# Altium schematic symbol library SamacSys.SchLib: 22 symbols
Pins are listed as number, name and electrical type; pins without a type are passive.

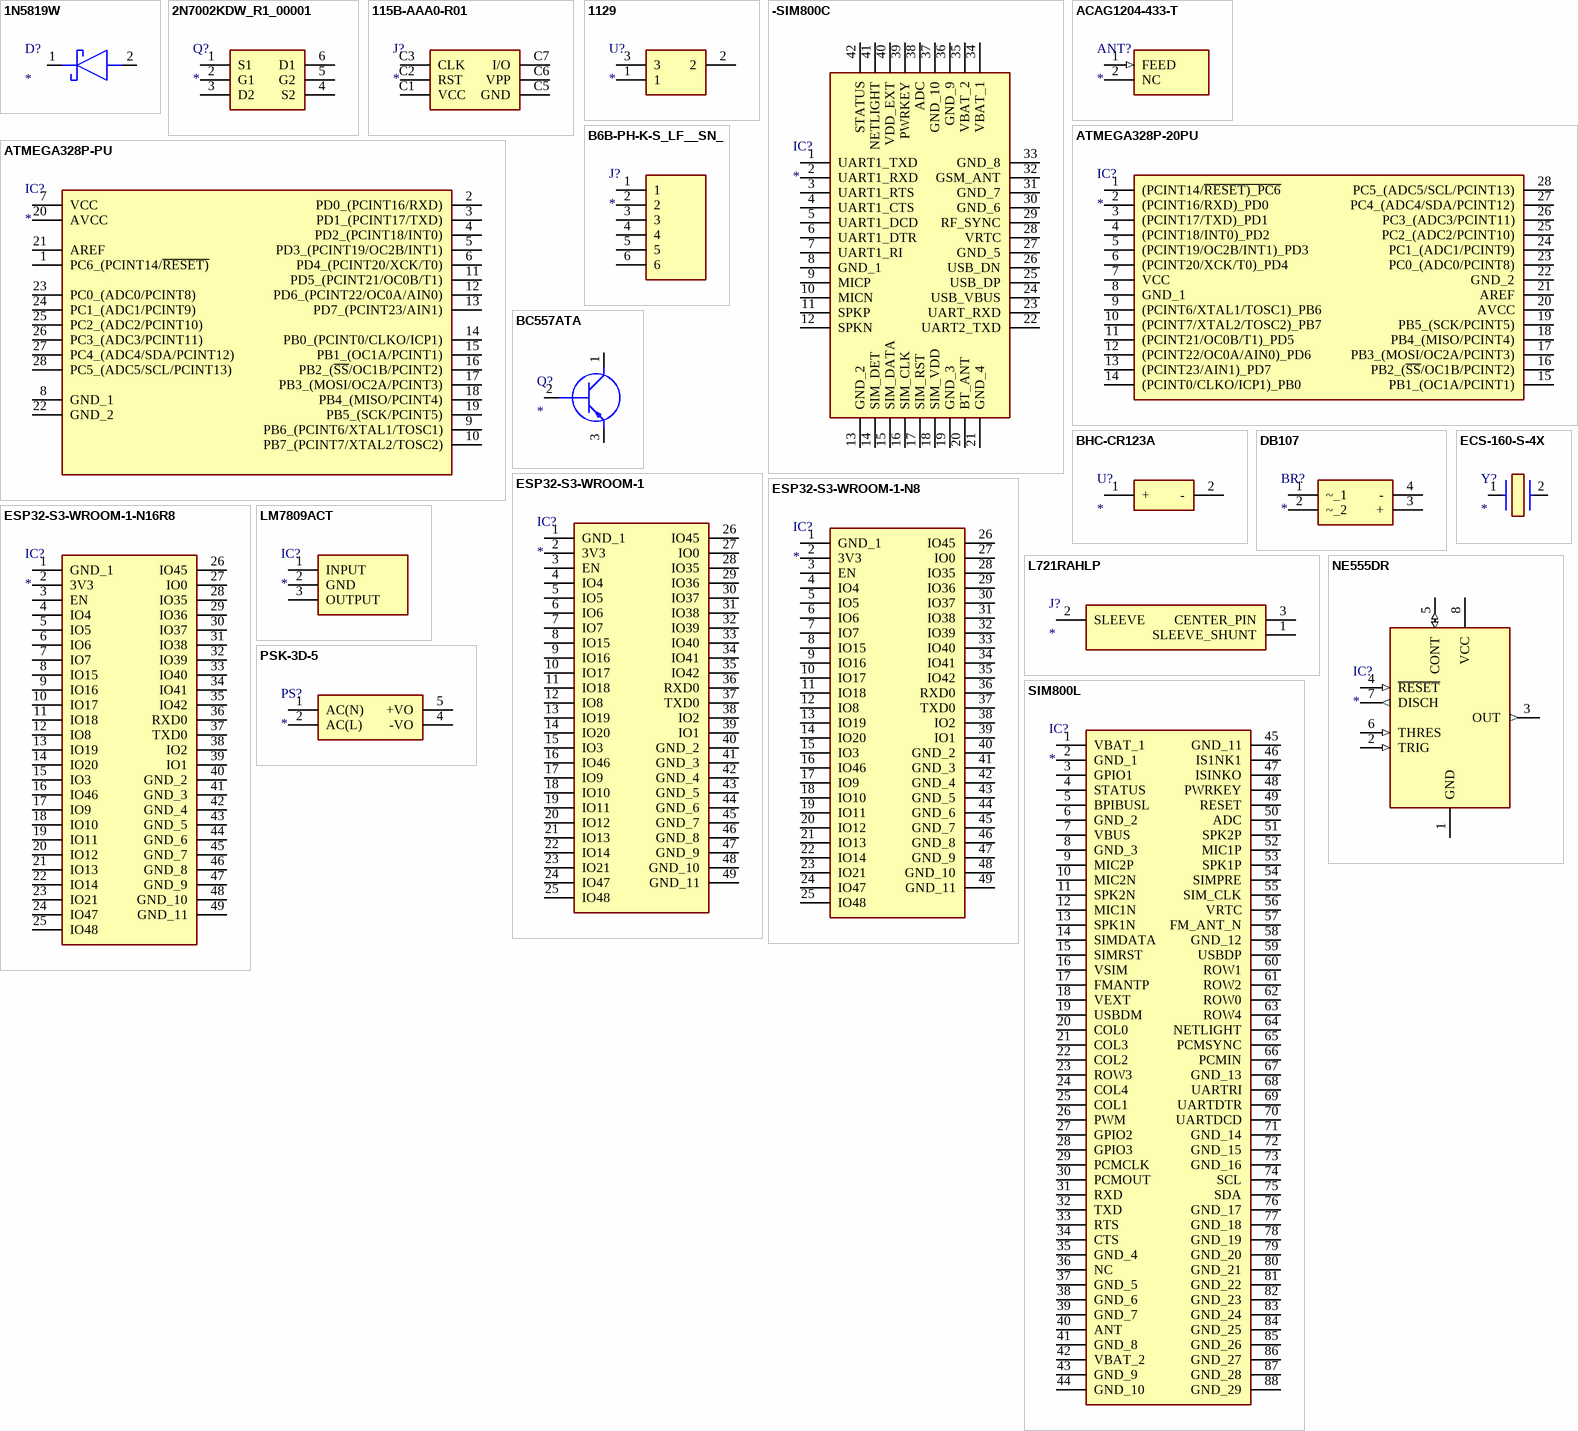
[diagram p0: symbols 1N5819W to SIM800L]

## 1N5819W
designator D?
Schottky Diode; Manufacturer_Name: Shandong Jingdao Microelectronics; Manufacturer_Part_Number: 1N5819W; Datasheet Link: https://datasheet.lcsc.com/szlcsc/Shandong-Jingdao-Microelectronics-1N5819W_C169540.pdf; Height: 1.1mm
footprint SODFL3618X110N
pins: 1 K, 2 A

## 2N7002KDW_R1_00001
designator Q?
MOSFET (N-Channel); Manufacturer_Name: PANJIT; Manufacturer_Part_Number: 2N7002KDW_R1_00001; Datasheet Link: https://www.mouser.com/datasheet/2/1057/2N7002KDW-1869725.pdf; Height: 1.1mm; Mouser Part Number: 241-2N7002KDWR100001; Mouser Price/Stock: https://www.mouser.co.uk/ProductDetail/Panjit/2N7002KDW_R1_00001?qs=sPbYRqrBIVmMdyQuXiqRcw%3D%3D
footprint SOT65P210X110-6N
pins: 1 S1, 2 G1, 3 D2, 4 S2, 5 G2, 6 D1

## 115B-AAA0-R01
designator J?
Connector; Manufacturer_Name: ATTEND; Manufacturer_Part_Number: 115B-AAA0-R01; Datasheet Link: https://www.attend.com.tw/data/download/file/115B-AAA0-R01.pdf; Height: 2.5mm
footprint 115BAAA0R01
pins: C1 VCC, C2 RST, C3 CLK, C5 GND, C6 VPP, C7 I/O

## 1129
designator U?
Undefined or Miscellaneous; Manufacturer_Name: Keystone Electronics; Manufacturer_Part_Number: 1129; Datasheet Link: https://www.keyelco.com/product-pdf.cfm?p=14070; Height: 15.24mm; Mouser Part Number: 534-1129; Mouser Price/Stock: https://www.mouser.co.uk/ProductDetail/Keystone-Electronics/1129?qs=1Og3oR3ILyBJg4T%252BMvCMOw%3D%3D
footprint 1129
pins: 1, 2, 3

## -SIM800C
designator IC?
Integrated Circuit; Manufacturer_Name: SIMCOM; Manufacturer_Part_Number: -SIM800C; Datasheet Link: https://datasheet.lcsc.com/szlcsc/SIMCom-Wireless-Solutions-SIM800C-24Mbit_C69119.pdf
footprint SIM800C
pins: 1 UART1_TXD, 2 UART1_RXD, 3 UART1_RTS, 4 UART1_CTS, 5 UART1_DCD, 6 UART1_DTR, 7 UART1_RI, 8 GND_1, 9 MICP, 10 MICN, 11 SPKP, 12 SPKN, 13 GND_2, 14 SIM_DET, 15 SIM_DATA, 16 SIM_CLK, 17 SIM_RST, 18 SIM_VDD, 19 GND_3, 20 BT_ANT, 21 GND_4, 22 UART2_TXD, 23 UART_RXD, 24 USB_VBUS, 25 USB_DP, 26 USB_DN, 27 GND_5, 28 VRTC, 29 RF_SYNC, 30 GND_6, 31 GND_7, 32 GSM_ANT, 33 GND_8, 34 VBAT_1, 35 VBAT_2, 36 GND_9, 37 GND_10, 38 ADC, 39 PWRKEY, 40 VDD_EXT, 41 NETLIGHT, 42 STATUS

## ACAG1204-433-T
designator ANT?
Antenna; Manufacturer_Name: ABRACON; Manufacturer_Part_Number: ACAG1204-433-T; Datasheet Link: https://abracon.com/datasheets/ACAG1204-433-T.pdf; Height: 1.7mm; Mouser Part Number: 815-G1204-433-T; Mouser Price/Stock: https://www.mouser.co.uk/ProductDetail/ABRACON/ACAG1204-433-T?qs=fAHHVMwC%252BbjkxKnkj6vGKw%3D%3D; Arrow Part Number: ACAG1204-433-T; Arrow Price/Stock: https://www.arrow.com/en/products/acag1204-433-t/abracon?region=nac
footprint ANTC12040X170N
pins: 1 FEED (in), 2 NC

## ATMEGA328P-20PU
designator IC?
Integrated Circuit; Manufacturer_Name: Microchip; Manufacturer_Part_Number: ATMEGA328P-20PU; Height: 4.572mm
footprint DIP794W53P254L3467H457Q28N
pins: 1 (PCINT14/~{RESET)_PC6}, 2 (PCINT16/RXD)_PD0, 3 (PCINT17/TXD)_PD1, 4 (PCINT18/INT0)_PD2, 5 (PCINT19/OC2B/INT1)_PD3, 6 (PCINT20/XCK/T0)_PD4, 7 VCC, 8 GND_1, 9 (PCINT6/XTAL1/TOSC1)_PB6, 10 (PCINT7/XTAL2/TOSC2)_PB7, 11 (PCINT21/OC0B/T1)_PD5, 12 (PCINT22/OC0A/AIN0)_PD6, 13 (PCINT23/AIN1)_PD7, 14 (PCINT0/CLKO/ICP1)_PB0, 15 PB1_(OC1A/PCINT1), 16 PB2_(~{SS}/OC1B/PCINT2), 17 PB3_(MOSI/OC2A/PCINT3), 18 PB4_(MISO/PCINT4), 19 PB5_(SCK/PCINT5), 20 AVCC, 21 AREF, 22 GND_2, 23 PC0_(ADC0/PCINT8), 24 PC1_(ADC1/PCINT9), 25 PC2_(ADC2/PCINT10), 26 PC3_(ADC3/PCINT11), 27 PC4_(ADC4/SDA/PCINT12), 28 PC5_(ADC5/SCL/PCINT13)

## ATMEGA328P-PU
designator IC?
Integrated Circuit; Manufacturer_Name: Microchip; Manufacturer_Part_Number: ATMEGA328P-PU; Datasheet Link: https://www.mouser.ca/datasheet/2/268/ATmega48A_PA_88A_PA_168A_PA_328_P_DS_DS40002061B-3050139.pdf; Height: 4.572mm; Mouser Part Number: 556-ATMEGA328P-PU; Mouser Price/Stock: https://www.mouser.co.uk/ProductDetail/Microchip-Technology/ATMEGA328P-PU?qs=K8BHR703ZXguOQv3sKbWcg%3D%3D; Arrow Part Number: ATMEGA328P-PU; Arrow Price/Stock: https://www.arrow.com/en/products/atmega328p-pu/microchip-technology?region=europe
footprint DIP794W53P254L3467H457Q28N
pins: 1 PC6_(PCINT14/~{RESET)}, 2 PD0_(PCINT16/RXD), 3 PD1_(PCINT17/TXD), 4 PD2_(PCINT18/INT0), 5 PD3_(PCINT19/OC2B/INT1), 6 PD4_(PCINT20/XCK/T0), 7 VCC, 8 GND_1, 9 PB6_(PCINT6/XTAL1/TOSC1), 10 PB7_(PCINT7/XTAL2/TOSC2), 11 PD5_(PCINT21/OC0B/T1), 12 PD6_(PCINT22/OC0A/AIN0), 13 PD7_(PCINT23/AIN1), 14 PB0_(PCINT0/CLKO/ICP1), 15 PB1_(OC1A/PCINT1), 16 PB2_(~{SS}/OC1B/PCINT2), 17 PB3_(MOSI/OC2A/PCINT3), 18 PB4_(MISO/PCINT4), 19 PB5_(SCK/PCINT5), 20 AVCC, 21 AREF, 22 GND_2, 23 PC0_(ADC0/PCINT8), 24 PC1_(ADC1/PCINT9), 25 PC2_(ADC2/PCINT10), 26 PC3_(ADC3/PCINT11), 27 PC4_(ADC4/SDA/PCINT12), 28 PC5_(ADC5/SCL/PCINT13)

## B6B-PH-K-S_LF__SN_
designator J?
Connector; Manufacturer_Name: JST (JAPAN SOLDERLESS TERMINALS); Manufacturer_Part_Number: B6B-PH-K-S(LF)(SN); Datasheet Link: https://datasheet.datasheetarchive.com/originals/distributors/Datasheets_SAMA/75c02eb1799788a6b14d7c521ee36df4.pdf; Height: 6mm; Arrow Part Number: B6B-PH-K-S(LF)(SN); Arrow Price/Stock: https://www.arrow.com/en/products/b6b-ph-k-s-lf-sn/jst-manufacturing?region=europe
footprint SHDR6W50P0X200_1X6_1390X450X600P
pins: 1, 2, 3, 4, 5, 6

## BC557ATA
designator Q?
Transistor BJT PNP; Manufacturer_Name: onsemi; Manufacturer_Part_Number: BC557ATA; Datasheet Link: https://www.onsemi.com/pub/Collateral/BC556BTA-D.pdf; Mouser Part Number: 512-BC557ATA; Mouser Price/Stock: https://www.mouser.co.uk/ProductDetail/onsemi-Fairchild/BC557ATA?qs=UMEuL5FsraA63Lc2JwNd8w%3D%3D; Arrow Part Number: BC557ATA; Arrow Price/Stock: https://www.arrow.com/en/products/bc557ata/on-semiconductor?region=nac
footprint BC33740TA
pins: 1 C, 2 B, 3 E

## BHC-CR123A
designator U?
Undefined or Miscellaneous; Manufacturer_Name: PRO POWER; Manufacturer_Part_Number: BHC-CR123A; Datasheet Link: http://www.farnell.com/cad/1868607.pdf
footprint BHC-CR123A
pins: 1 +, 2 -

## DB107
designator BR?
Bridge Rectifier; Manufacturer_Name: Rectron; Manufacturer_Part_Number: DB107; Datasheet Link: https://www.rectron.com/data_sheets/db101-107.pdf; Height: 3.4mm; Mouser Part Number: 583-DB107; Mouser Price/Stock: https://www.mouser.co.uk/ProductDetail/Rectron/DB107?qs=G5AQjGfRJcLGAY%252B6bEDnbw%3D%3D
footprint DIP825W50P510L830H340Q4N
pins: 1 ~_1, 2 ~_2, 3 +, 4 -

## ECS-160-S-4X
designator Y?
Crystal or Oscillator; Manufacturer_Name: ECS; Manufacturer_Part_Number: ECS-160-S-4X; Datasheet Link: http://www.ecsxtal.com/store/pdf/hc-49usx.pdf; Height: 3.5mm; Mouser Part Number: 520-HCU1600-SX; Mouser Price/Stock: https://www.mouser.co.uk/ProductDetail/ECS/ECS-160-S-4X?qs=CNVyLAqdhH109We7RtSowA%3D%3D; Arrow Part Number: ECS-160-S-4X; Arrow Price/Stock: https://www.arrow.com/en/products/ecs-160-s-4x/ecs-international?region=nac
footprint ECS160S4X
pins: 1, 2

## ESP32-S3-WROOM-1
designator IC?
Integrated Circuit; Manufacturer_Name: Espressif Systems; Manufacturer_Part_Number: ESP32-S3-WROOM-1; Datasheet Link: https://www.mouser.com/catalog/specsheets/Espressif_ESP32_S3_WROOM_1_1U_Preliminary.pdf; Height: 3.25mm
footprint ESP32S3WROOM1
pins: 1 GND_1, 2 3V3, 3 EN, 4 IO4, 5 IO5, 6 IO6, 7 IO7, 8 IO15, 9 IO16, 10 IO17, 11 IO18, 12 IO8, 13 IO19, 14 IO20, 15 IO3, 16 IO46, 17 IO9, 18 IO10, 19 IO11, 20 IO12, 21 IO13, 22 IO14, 23 IO21, 24 IO47, 25 IO48, 26 IO45, 27 IO0, 28 IO35, 29 IO36, 30 IO37, 31 IO38, 32 IO39, 33 IO40, 34 IO41, 35 IO42, 36 RXD0, 37 TXD0, 38 IO2, 39 IO1, 40 GND_2, 41 GND_3, 42 GND_4, 43 GND_5, 44 GND_6, 45 GND_7, 46 GND_8, 47 GND_9, 48 GND_10, 49 GND_11

## ESP32-S3-WROOM-1-N8
designator IC?
Integrated Circuit; Manufacturer_Name: Espressif Systems; Manufacturer_Part_Number: ESP32-S3-WROOM-1-N8; Datasheet Link: https://www.espressif.com/sites/default/files/documentation/esp32-s3-wroom-1_wroom-1u_datasheet_en.pdf; Height: 3.25mm; Mouser Part Number: 356-ESP32-S3WROOM1N8; Mouser Price/Stock: https://www.mouser.co.uk/ProductDetail/Espressif-Systems/ESP32-S3-WROOM-1-N8?qs=Wj%2FVkw3K%252BMC1mq0KGPvoSQ%3D%3D
footprint ESP32S3WROOM1N8R2
pins: 1 GND_1, 2 3V3, 3 EN, 4 IO4, 5 IO5, 6 IO6, 7 IO7, 8 IO15, 9 IO16, 10 IO17, 11 IO18, 12 IO8, 13 IO19, 14 IO20, 15 IO3, 16 IO46, 17 IO9, 18 IO10, 19 IO11, 20 IO12, 21 IO13, 22 IO14, 23 IO21, 24 IO47, 25 IO48, 26 IO45, 27 IO0, 28 IO35, 29 IO36, 30 IO37, 31 IO38, 32 IO39, 33 IO40, 34 IO41, 35 IO42, 36 RXD0, 37 TXD0, 38 IO2, 39 IO1, 40 GND_2, 41 GND_3, 42 GND_4, 43 GND_5, 44 GND_6, 45 GND_7, 46 GND_8, 47 GND_9, 48 GND_10, 49 GND_11

## ESP32-S3-WROOM-1-N16R8
designator IC?
Integrated Circuit; Manufacturer_Name: Espressif Systems; Manufacturer_Part_Number: ESP32-S3-WROOM-1-N16R8; Datasheet Link: https://www.espressif.com/sites/default/files/documentation/esp32-s3-wroom-1_wroom-1u_datasheet_en.pdf; Height: 3.25mm; Mouser Part Number: 356-ESP32S3WRM1N16R8; Mouser Price/Stock: https://www.mouser.co.uk/ProductDetail/Espressif-Systems/ESP32-S3-WROOM-1-N16R8?qs=Li%252BoUPsLEnvQc9gW6AMhZg%3D%3D
footprint ESP32S3WROOM1N16R8
pins: 1 GND_1, 2 3V3, 3 EN, 4 IO4, 5 IO5, 6 IO6, 7 IO7, 8 IO15, 9 IO16, 10 IO17, 11 IO18, 12 IO8, 13 IO19, 14 IO20, 15 IO3, 16 IO46, 17 IO9, 18 IO10, 19 IO11, 20 IO12, 21 IO13, 22 IO14, 23 IO21, 24 IO47, 25 IO48, 26 IO45, 27 IO0, 28 IO35, 29 IO36, 30 IO37, 31 IO38, 32 IO39, 33 IO40, 34 IO41, 35 IO42, 36 RXD0, 37 TXD0, 38 IO2, 39 IO1, 40 GND_2, 41 GND_3, 42 GND_4, 43 GND_5, 44 GND_6, 45 GND_7, 46 GND_8, 47 GND_9, 48 GND_10, 49 GND_11

## L721RAHLP
designator J?
Connector; Manufacturer_Name: Switchcraft; Manufacturer_Part_Number: L721RAHLP; Datasheet Link: https://www.switchcraft.com/assets/1/24/L7_%20_RAHLP%20SERIES_CD_REV0A.pdf?7825; Height: 11.84mm; Mouser Part Number: 502-L721RAHLP; Mouser Price/Stock: https://www.mouser.co.uk/ProductDetail/Switchcraft/L721RAHLP?qs=e8oIoAS2J1TMa2GuTaolWA%3D%3D; Arrow Part Number: L721RAHLP; Arrow Price/Stock: https://www.arrow.com/en/products/l721rahlp/switchcraft?region=nac
footprint L721RAHLP
pins: 1 SLEEVE_SHUNT, 2 SLEEVE, 3 CENTER_PIN

## LM7809ACT
designator IC?
Integrated Circuit; Manufacturer_Name: onsemi; Manufacturer_Part_Number: LM7809ACT; Datasheet Link: https://www.mouser.com/datasheet/2/308/LM7809A-1306765.pdf; Height: 4.7mm; Mouser Part Number: 512-LM7809ACT; Mouser Price/Stock: https://www.mouser.co.uk/ProductDetail/ON-Semiconductor-Fairchild/LM7809ACT?qs=VOMQJJE%252BBNnUX5YOd5%2Fz3w%3D%3D
footprint TO254P470X1016X2019-3P
pins: 1 INPUT, 2 GND, 3 OUTPUT

## NE555DR
designator IC?
Integrated Circuit; Manufacturer_Name: Texas Instruments; Manufacturer_Part_Number: NE555DR; Datasheet Link: http://www.ti.com/lit/ds/symlink/ne555.pdf; Height: 1.75mm; Mouser Part Number: 595-NE555DR; Mouser Price/Stock: https://www.mouser.com/Search/Refine.aspx?Keyword=595-NE555DR; RS Part Number: 1218414; RS Price/Stock: http://uk.rs-online.com/web/p/products/1218414
footprint SOIC127P600X175-8N
pins: 1 GND (power), 2 TRIG (in), 3 OUT (out), 4 ~{RESET} (in), 5 CONT (io), 6 THRES (in), 7 DISCH (out), 8 VCC (power)

## PSK-3D-5
designator PS?
Power Supply; Manufacturer_Name: CUI Inc.; Manufacturer_Part_Number: PSK-3D-5; Datasheet Link: https://www.cui.com/product/resource/psk-3d.pdf; Height: 18.1mm; Mouser Part Number: 490-PSK-3D-5; Mouser Price/Stock: https://www.mouser.co.uk/ProductDetail/CUI-Inc/PSK-3D-5?qs=DRkmTr78QARPDdufQrhZuw%3D%3D; Arrow Part Number: PSK-3D-5; Arrow Price/Stock: https://www.arrow.com/en/products/psk-3d-5/cui-inc?region=nac
footprint PSK3D5
pins: 1 AC(N), 2 AC(L), 4 -VO, 5 +VO

## SIM800L
designator IC?
Integrated Circuit; Manufacturer_Name: SIMCOM; Manufacturer_Part_Number: SIM800L; Datasheet Link: http://img.filipeflop.com/files/download/Datasheet_SIM800L.pdf; Height: 2.55mm
footprint SIM800L
pins: 1 VBAT_1, 2 GND_1, 3 GPIO1, 4 STATUS, 5 BPIBUSL, 6 GND_2, 7 VBUS, 8 GND_3, 9 MIC2P, 10 MIC2N, 11 SPK2N, 12 MIC1N, 13 SPK1N, 14 SIMDATA, 15 SIMRST, 16 VSIM, 17 FMANTP, 18 VEXT, 19 USBDM, 20 COL0, 21 COL3, 22 COL2, 23 ROW3, 24 COL4, 25 COL1, 26 PWM, 27 GPIO2, 28 GPIO3, 29 PCMCLK, 30 PCMOUT, 31 RXD, 32 TXD, 33 RTS, 34 CTS, 35 GND_4, 36 NC, 37 GND_5, 38 GND_6, 39 GND_7, 40 ANT, 41 GND_8, 42 VBAT_2, 43 GND_9, 44 GND_10, 45 GND_11, 46 IS1NK1, 47 ISINKO, 48 PWRKEY, 49 RESET, 50 ADC, 51 SPK2P, 52 MIC1P, 53 SPK1P, 54 SIMPRE, 55 SIM_CLK, 56 VRTC, 57 FM_ANT_N, 58 GND_12, 59 USBDP, 60 ROW1, 61 ROW2, 62 ROW0, 63 ROW4, 64 NETLIGHT, 65 PCMSYNC, 66 PCMIN, 67 GND_13, 68 UARTRI, 69 UARTDTR, 70 UARTDCD, 71 GND_14, 72 GND_15, 73 GND_16, 74 SCL, 75 SDA, 76 GND_17, 77 GND_18, 78 GND_19, 79 GND_20, 80 GND_21, 81 GND_22, 82 GND_23, 83 GND_24, 84 GND_25, 85 GND_26, 86 GND_27, 87 GND_28, 88 GND_29

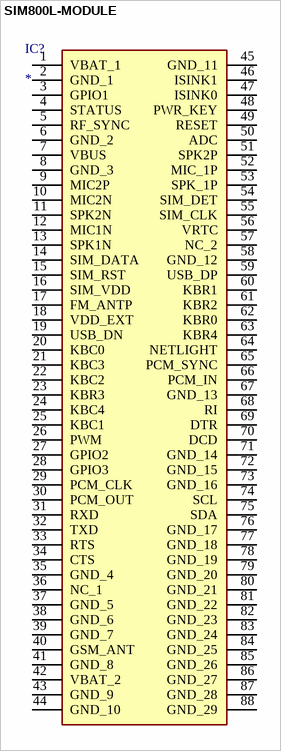
[diagram p1: symbol SIM800L-MODULE]

## SIM800L-MODULE
designator IC?
Integrated Circuit; Manufacturer_Name: SIMCOM; Manufacturer_Part_Number: SIM800L-MODULE; Datasheet Link: https://www.manualslib.com/manual/1747481/Simcom-Sim800l.html?page=19#manual; Height: 2.55mm
footprint SIM800LMODULE
pins: 1 VBAT_1, 2 GND_1, 3 GPIO1, 4 STATUS, 5 RF_SYNC, 6 GND_2, 7 VBUS, 8 GND_3, 9 MIC2P, 10 MIC2N, 11 SPK2N, 12 MIC1N, 13 SPK1N, 14 SIM_DATA, 15 SIM_RST, 16 SIM_VDD, 17 FM_ANTP, 18 VDD_EXT, 19 USB_DN, 20 KBC0, 21 KBC3, 22 KBC2, 23 KBR3, 24 KBC4, 25 KBC1, 26 PWM, 27 GPIO2, 28 GPIO3, 29 PCM_CLK, 30 PCM_OUT, 31 RXD, 32 TXD, 33 RTS, 34 CTS, 35 GND_4, 36 NC_1, 37 GND_5, 38 GND_6, 39 GND_7, 40 GSM_ANT, 41 GND_8, 42 VBAT_2, 43 GND_9, 44 GND_10, 45 GND_11, 46 ISINK1, 47 ISINK0, 48 PWR_KEY, 49 RESET, 50 ADC, 51 SPK2P, 52 MIC_1P, 53 SPK_1P, 54 SIM_DET, 55 SIM_CLK, 56 VRTC, 57 NC_2, 58 GND_12, 59 USB_DP, 60 KBR1, 61 KBR2, 62 KBR0, 63 KBR4, 64 NETLIGHT, 65 PCM_SYNC, 66 PCM_IN, 67 GND_13, 68 RI, 69 DTR, 70 DCD, 71 GND_14, 72 GND_15, 73 GND_16, 74 SCL, 75 SDA, 76 GND_17, 77 GND_18, 78 GND_19, 79 GND_20, 80 GND_21, 81 GND_22, 82 GND_23, 83 GND_24, 84 GND_25, 85 GND_26, 86 GND_27, 87 GND_28, 88 GND_29